# Altium footprint library Own_lib.PcbLib: 52 footprints (part 4 of 4)
Each footprint in its own frame and in the unit in brackets; x right, y up, seen from the top. Pads: shape width x height; smd on the part's side, far side on the other; paste and mask are expansions set on the pad; w line width, h text height; cw(c..) or ccw(c..) is an arc to the next point about the centre after c.
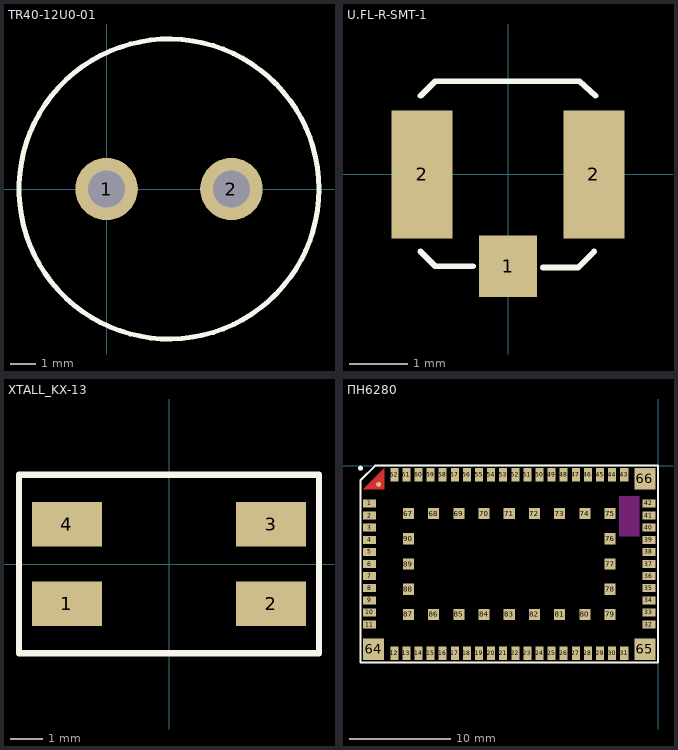
[diagram p3: the footprints below, top view; thin cyan lines are the x and y axes]

## TR40-12U0-01 [mm]
pads (2):
  round 2.5 hole 1.5 paste+0 mask+0.102: 1(0,0) 2(5,0)
Top Overlay:
  circle w0.2: c2.5,0 r6
3D body: height 5, standoff 0, extent -3.5,-6 8.5,6

## U.FL-R-SMT-1 [mm]
pads (3):
  rect 1x1.05 smd: 1(0,-1.575)
  rect 1.05x2.2 smd: 2(-1.475,0) 2(1.475,0)
Top Overlay:
  lines w0.1: -1.5,-1.325 -1.25,-1.575 -0.6,-1.575 ; -1.5,1.35 -1.25,1.6 1.075,1.6 1.225,1.6 1.5,1.35 ; 0.6,-1.6 1.2,-1.6 1.475,-1.325
3D body "U.FL-R-SMT-1_01_.stp": height 1.25, standoff 0, extent -1.5,-1.55 1.5,1.55

## XTALL_KX-13 [mm]
pads (4):
  rect 2.2x1.4 smd paste+0: 1(-3.2,-1.25) 2(3.2,-1.25) 3(3.2,1.25) 4(-3.2,1.25)
Top Overlay:
  lines w0.2: -4.7,-2.8 -3.5,-2.8 3.5,-2.8 4.7,-2.8 4.7,-0.95 4.7,1.55 4.7,2.8 3.6,2.8 -3.4,2.8 -4.7,2.8 -4.7,-2.8
3D body: height 1.3, standoff 0, extent -3.5,-2.475 3.5,2.475

## ПН6280 [mm]
pads (91):
  rect 1.3x0.8 smd: 1(-28.6,-3.75) 2(-28.6,-4.95) 3(-28.6,-6.15) 4(-28.6,-7.35) 5(-28.6,-8.55) 6(-28.6,-9.75) 7(-28.6,-10.95) 8(-28.6,-12.15) 9(-28.6,-13.35) 10(-28.6,-14.55) 11(-28.6,-15.75) 32(-0.9,-15.75) 33(-0.9,-14.55) 34(-0.9,-13.35) 35(-0.9,-12.15) 36(-0.9,-10.95) 37(-0.9,-9.75) 38(-0.9,-8.55) 39(-0.9,-7.35) 40(-0.9,-6.15) 41(-0.9,-4.95) 42(-0.9,-3.75)
  rect 0.8x1.3 smd: 12(-26.15,-18.6) 13(-24.95,-18.6) 14(-23.75,-18.6) 15(-22.55,-18.6) 16(-21.35,-18.6) 17(-20.15,-18.6) 18(-18.95,-18.6) 19(-17.75,-18.6) 20(-16.55,-18.6) 21(-15.35,-18.6) 22(-14.15,-18.6) 23(-12.95,-18.6) 24(-11.75,-18.6) 25(-10.55,-18.6) 26(-9.35,-18.6) 27(-8.15,-18.6) 28(-6.95,-18.6) 29(-5.75,-18.6) 30(-4.55,-18.6) 31(-3.35,-18.6) 43(-3.35,-0.9) 44(-4.55,-0.9) 45(-5.75,-0.9) 46(-6.95,-0.9) 47(-8.15,-0.9) 48(-9.35,-0.9) 49(-10.55,-0.9) 50(-11.75,-0.9) 51(-12.95,-0.9) 52(-14.15,-0.9) 53(-15.35,-0.9) 54(-16.55,-0.9) 55(-17.75,-0.9) 56(-18.95,-0.9) 57(-20.15,-0.9) 58(-21.35,-0.9) 59(-22.55,-0.9) 60(-23.75,-0.9) 61(-24.95,-0.9) 62(-26.15,-0.9)
  round 0.5 smd: 63(-27.7,-1.85)
  rect 2.1x2.1 smd: 64(-28.2,-18.2) 65(-1.3,-18.2) 66(-1.3,-1.3)
  rect 1.1x1.1 smd: 67(-24.75,-4.75) 68(-22.25,-4.75) 69(-19.75,-4.75) 70(-17.25,-4.75) 71(-14.75,-4.75) 72(-12.25,-4.75) 73(-9.75,-4.75) 74(-7.25,-4.75) 75(-4.75,-4.75) 76(-4.75,-7.25) 77(-4.75,-9.75) 78(-4.75,-12.25) 79(-4.75,-14.75) 80(-7.25,-14.75) 81(-9.75,-14.75) 82(-12.25,-14.75) 83(-14.75,-14.75) 84(-17.25,-14.75) 85(-19.75,-14.75) 86(-22.25,-14.75) 87(-24.75,-14.75) 88(-24.75,-12.25) 89(-24.75,-9.75) 90(-24.75,-7.25)
  round 0.5 on Top Overlay: -(-29.5,-0.25)
Top Layer:
  region: -27.15,-2.35 -27.15,-0.25 -29.25,-2.35
Top Layer keep-out:
  region: -1.85,-3.005 -3.85,-3.005 -3.85,-7.005 -1.85,-7.005
Top Overlay:
  lines w0.2: -29.5,-19.5 -29.5,-1.45 -28.05,0 -27.85,0 0,0 0,-19.5 -29.5,-19.5
3D body: height 1.65, standoff 0, extent -29.45,-19.5 0,0